# Altium footprint library HANDS-FREEE-PcbLib-V1.10.PcbLib: 197 footprints (part 12 of 13)
Each footprint in its own frame and in the unit in brackets; x right, y up, seen from the top. Pads: shape width x height; smd on the part's side, far side on the other; paste and mask are expansions set on the pad; w line width, h text height; cw(c..) or ccw(c..) is an arc to the next point about the centre after c.
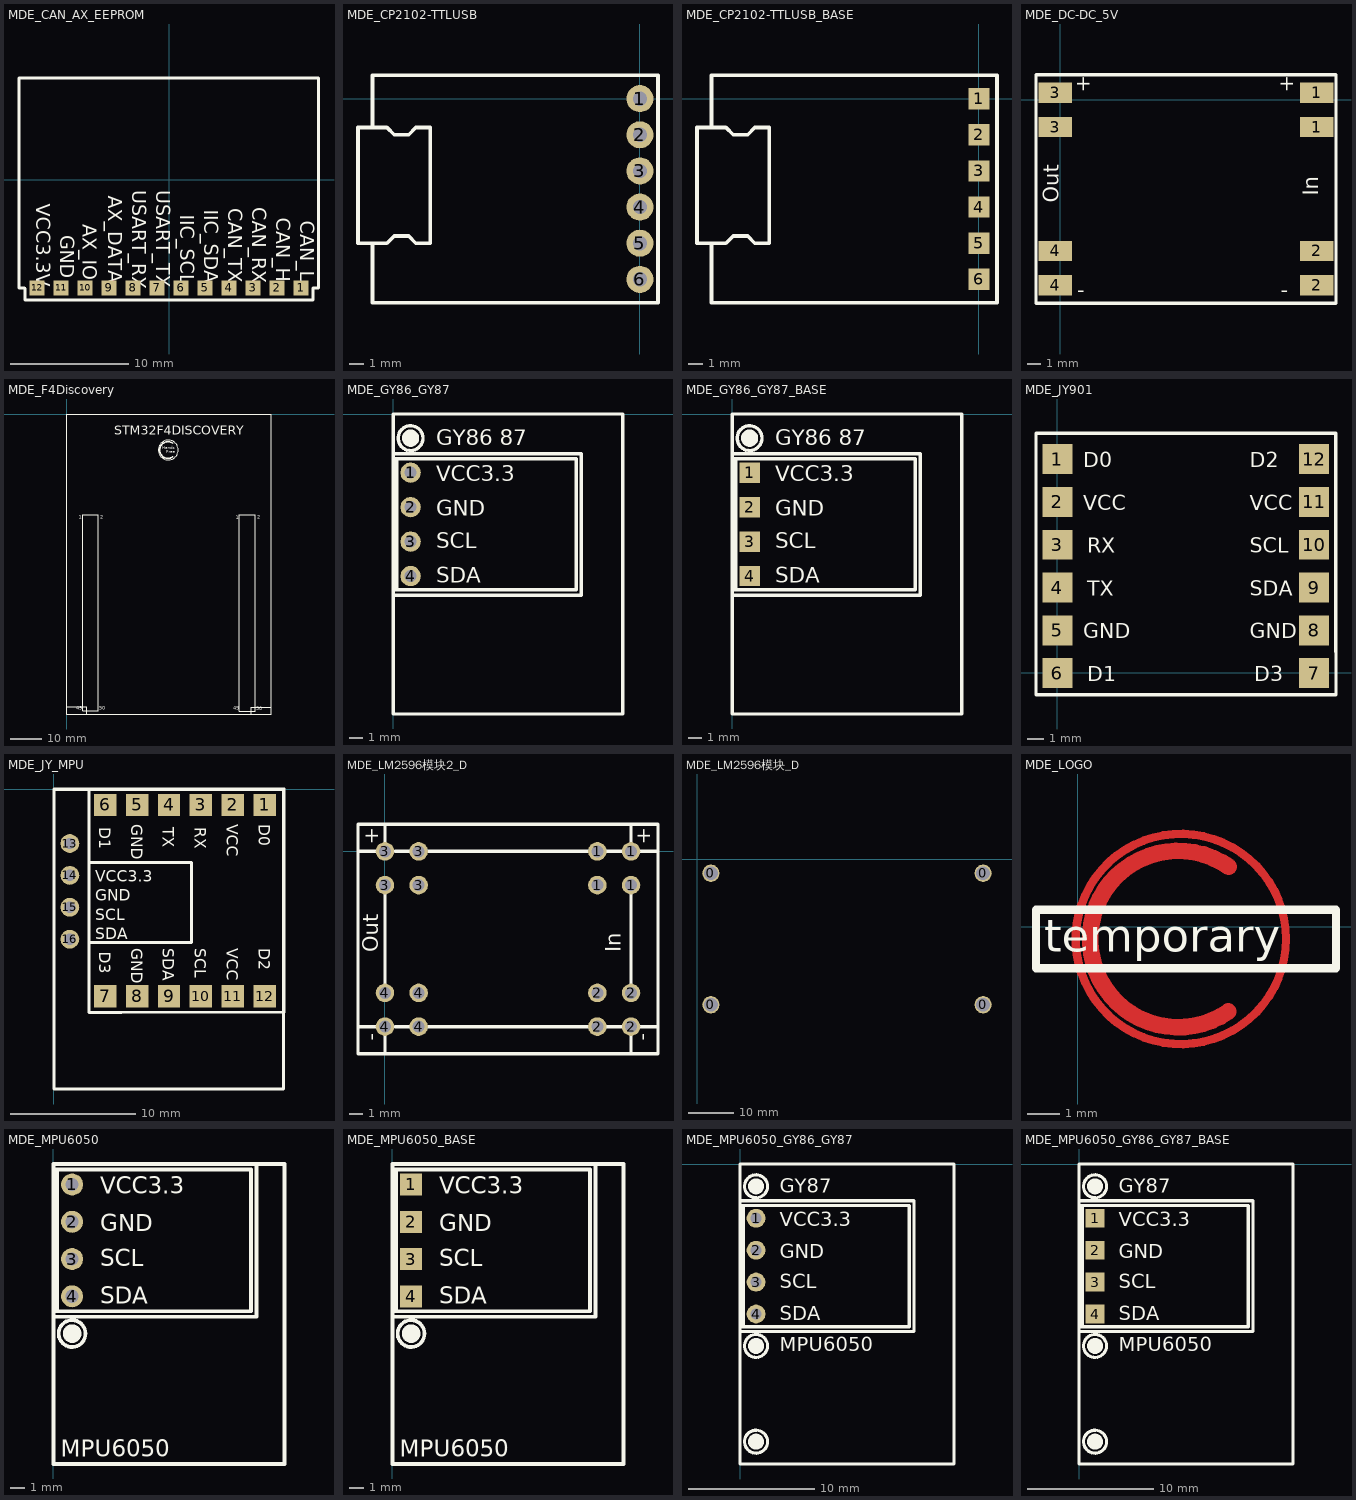
[diagram p11: the footprints below, top view; thin cyan lines are the x and y axes]

## MDE_CAN_AX_EEPROM [mil]
pads (12):
  rect 50x50 smd: 1(440,-360) 2(360,-360) 3(280,-360) 4(200,-360) 5(120,-360) 6(40,-360) 7(-40,-360) 8(-120,-360) 9(-200,-360) 10(-280,-360) 11(-360,-360) 12(-440,-360)
Top Overlay:
  lines w10: -500,-361 -500,339 498,339 498,-361 481,-361 480,-360 480,-400 0,-400 -480,-400 -480,-362 -481,-361 -500,-361
  text "VCC3.3V" at -460,-79.07 h80
  text "GND" at -380,-185 h80
  text "AX_IO" at -305,-148.81 h80
  text "AX_DATA" at -220,-52.75 h80
  text "USART_RX" at -140,-34.16 h80
  text "USART_TX" at -60,-35.18 h80
  text "IIC_SCL" at 20,-117.03 h80
  text "IIC_SDA" at 100,-100 h80
  text "CAN_TX" at 180,-95.08 h80
  text "CAN_RX" at 260,-90.86 h80
  text "CAN_H" at 340,-126.01 h80
  text "CAN_L" at 420,-136.47 h80

## MDE_CP2102-TTLUSB [mm]
pads (6):
  round 1.9 hole 1: 1(0,0) 2(0,-2.54) 3(0,-5.08) 4(0,-7.62) 5(0,-10.16) 6(0,-12.7)
Top Overlay:
  lines w0.254: -18.796,-10.16 -17.78,-10.16 -17.272,-9.652 -16.256,-9.652 -15.748,-10.16 -14.732,-10.16 -14.732,-6.096 -14.732,-2.032 -15.748,-2.032 -16.256,-2.54 -17.272,-2.54 -17.78,-2.032 -18.796,-2.032 ; -18.796,-10.16 -19.812,-10.16 -19.812,-2.032 -18.796,-2.032 ; -18.796,-10.16 -18.796,-14.351 1.27,-14.351 1.27,1.651 -18.796,1.651 -18.796,-2.032

## MDE_CP2102-TTLUSB_BASE [mil]
pads (6):
  rect 59x59 smd: 1(0,0) 2(0,-100) 3(0,-200) 4(0,-300) 5(0,-400) 6(0,-500)
Top Overlay:
  lines w10: -740,-400 -700,-400 -680,-380 -640,-380 -620,-400 -580,-400 -580,-240 -580,-80 -620,-80 -640,-100 -680,-100 -700,-80 -740,-80 ; -740,-400 -780,-400 -780,-80 -740,-80 ; -740,-400 -740,-565 50,-565 50,65 -740,65 -740,-80

## MDE_DC-DC_5V [mil]
pads (8):
  rect 98.43x59.06 smd: 1(745,-80) 1(745,20) 2(745,-540) 2(745,-440) 3(-15,-80) 3(-15,20) 4(-15,-540) 4(-15,-440)
Top Overlay:
  lines w10: -71,-592 801,-592 801,72 -71,72 -71,-592
  text "+" at 49,20 h45
  text "-" at 49,-575 h45
  text "-" at 640,-575 h45
  text "In" at 750,-280 h45
  text "Out" at -5,-300 h45
  text "+" at 640,20 h45

## MDE_F4Discovery [mil]
Top Overlay:
  circle w10: c1290.81,-459 r126.19
  lines w7.87: 200,-3780 400,-3780 400,-1355 400,-1280 200,-1280 200,-1355 200,-3780 ; 2197,-3783 2197,-1358 2197,-1283 2397,-1283 2397,-1358 2397,-3783 2197,-3783
  lines w10: 0,-3730 249.21,-3730 ; 250,-3817.4 250,-3730 ; 2348,-3819.4 2348,-3732 2597.21,-3732 ; 0,-3820 0,0 2600,0 2600,-3820 0,-3820
  lines w20: 1347.87,-546.09 cw(c1287.7,-459.05) 1348.29,-372.3
  text "Hands" at 1212,-449 h35
  text "Free" at 1262,-499 h35
  text "1" at 150,-1352 h78.74
  text "2" at 422,-1352 h78.74
  text "49" at 2117,-3786 h78.74
  text "49" at 117,-3785 h78.74
  text "50" at 410,-3783 h78.74
  text "2" at 2422,-1353 h78.74
  text "1" at 2148,-1359 h78.74
  text "50" at 2409,-3789 h78.74
  text "STM32F4DISCOVERY" at 605,-301 h196.85

## MDE_GY86_GY87 [mil]
pads (4):
  round 59 hole 35.43: 1(50,-170) 2(50,-270) 3(50,-370) 4(50,-470)
Top Overlay:
  circle w10: c50,-70 r36.06
  circle w30: c50,-70 r10
  lines w10: 0,-525 545,-525 545,-115 0,-115 ; 0,-510 530,-510 530,-130 0,-130 ; 10,-510 10,-130 15,-130 ; 0,-870 0,0 665,0 665,-870 0,-870
  text "GY86 87" at 125,-90 h45
  text "SCL" at 125,-390 h45
  text "GND" at 125,-295 h45
  text "VCC3.3" at 125,-195 h45
  text "SDA" at 125,-490 h45

## MDE_GY86_GY87_BASE [mil]
pads (4):
  rect 59x59 smd: 1(50,-170) 2(50,-270) 3(50,-370) 4(50,-470)
Top Overlay:
  circle w10: c50,-70 r36.06
  circle w30: c50,-70 r10
  lines w10: 0,-525 545,-525 545,-115 0,-115 ; 0,-510 530,-510 530,-130 0,-130 ; 10,-510 10,-130 15,-130 ; 0,-870 0,0 665,0 665,-870 0,-870
  text "GY86 87" at 125,-90 h45
  text "SCL" at 125,-390 h45
  text "GND" at 125,-295 h45
  text "VCC3.3" at 125,-195 h45
  text "SDA" at 125,-490 h45

## MDE_JY901 [mil]
pads (12):
  rect 70x70 smd: 1(0.63,499.63) 2(0.63,399.63) 3(0.63,299.63) 4(0.63,199.63) 5(0.63,99.63) 6(0.63,-0.37) 7(600.63,-0.37) 8(600.63,99.63) 9(600.63,199.63) 10(600.63,299.63) 11(600.63,399.63) 12(600.63,499.63)
Top Overlay:
  lines w7.87: -49.37,49.63 -49.37,449.63 ; 650.63,449.63 650.63,49.63 651.63,49.63
  lines w8: -49.37,49.63 -49.37,-51.37 651.63,-51.37 651.63,49.63 ; -49.37,449.63 -49.37,560.63 650.63,560.63 650.63,449.63
  text "VCC" at 60.63,380.63 h35
  text "VCC" at 450.63,380.63 h35
  text "GND" at 60.63,80.63 h35
  text "GND" at 450.63,80.63 h35
  text "RX" at 70.63,280.63 h35
  text "TX" at 70.63,180.63 h35
  text "SDA" at 450.63,180.63 h35
  text "SCL" at 450.63,280.63 h35
  text "D0" at 60.63,480.63 h35
  text "D1" at 70.63,-19.37 h35
  text "D2" at 450.63,480.63 h35
  text "D3" at 460.63,-19.37 h35

## MDE_JY_MPU [mil]
pads (16):
  rect 70x70 smd: 1(661,-49) 2(561,-49) 3(461,-49) 4(361,-49) 5(261,-49) 6(161,-49) 7(161,-649) 8(261,-649) 9(361,-649) 10(461,-649) 11(561,-649) 12(661,-649)
  round 59 hole 35.43: 13(50,-170) 14(50,-270) 15(50,-370) 16(50,-470)
Top Overlay:
  lines w7.87: 211,-700 211,-699 611,-699 ; 211,1 611,1
  lines w8: 211,-700 110,-700 110,1 211,1 ; 611,-699 722,-699 722,1 611,1
  lines w10: 70,-940 0,-940 ; 110,-480 432,-480 432,-230 110,-230 ; 0,-940 720,-940 720,0 0,0 0,-940
  text "SDA" at 130,-470 h35
  text "VCC3.3" at 130,-290 h35
  text "GND" at 130,-350 h35
  text "SCL" at 130,-410 h35
  text "D3" at 142,-509 h35
  text "D2" at 642,-499 h35
  text "D1" at 142,-119 h35
  text "D0" at 642,-109 h35
  text "SCL" at 442,-499 h35
  text "SDA" at 342,-499 h35
  text "TX" at 342,-119 h35
  text "RX" at 442,-119 h35
  text "GND" at 242,-499 h35
  text "GND" at 242,-109 h35
  text "VCC" at 542,-499 h35
  text "VCC" at 542,-109 h35

## MDE_LM2596模块2_D [mil]
pads (16):
  round 55 hole 35.6: 1(630,-100) 1(630,0) 1(730,-100) 1(730,0) 2(630,-520) 2(630,-420) 2(730,-520) 2(730,-420) 3(0,-100) 3(0,0) 3(100,-100) 3(100,0) 4(0,-520) 4(0,-420) 4(100,-520) 4(100,-420)
Top Overlay:
  lines w10: -80,-520 0,-520 0,-600 ; -80,0 0,0 0,80 ; 0,-420 0,-100 ; 30,-520 730,-520 ; 30,0 730,0 ; 730,-600 730,-520 ; 730,-420 730,-100 ; 730,80 730,0 ; 810,-520 730,-520 ; 730,0 810,0 ; 810,0 810,-600 -80,-600 -80,80 810,80 810,0
  text "-" at 750,-540 h45
  text "-" at -20,-540 h45
  text "In" at 700,-300 h45
  text "Out" at -20,-300 h45
  text "+" at -20,20 h45
  text "+" at 750,20 h45

## MDE_LM2596模块_D [mil]
pads (4):
  round 150 hole 120: 0(120,-1260) 0(120,-120) 0(2480,-1260) 0(2480,-120)
Bottom Overlay:
  lines w10: 0,-1380 0,0 2600,0 2600,-1380 0,-1380

## MDE_LOGO [mil]
Top Layer:
  circle w10: c123.81,-15 r126.19
  lines w20: 180.87,-102.09 cw(c120.7,-15.05) 181.29,71.7
  text "Free" at 95,-55 h35
  text "Hands" at 45,-5 h35
Top Overlay:
  lines w10: -50,-50 310,-50 310,20 -50,20 -50,-50
  text "temporary" at -40,-30 h39.37
Top Solder:
  circle w10: c123.81,-15 r126.19
  lines w20: 180.87,-102.09 cw(c120.7,-15.05) 181.29,71.7
  text "Free" at 95,-55 h35
  text "Hands" at 45,-5 h35

## MDE_MPU6050 [mil]
pads (4):
  round 59 hole 35.43: 1(50,-170) 2(50,-270) 3(50,-370) 4(50,-470)
Top Overlay:
  circle w10: c50,-570 r36.06
  circle w30: c50,-570 r10
  lines w10: 0,-525 545,-525 545,-115 0,-115 ; 0,-510 530,-510 530,-130 0,-130 ; 10,-510 10,-130 15,-130 ; 0,-115 0,-920 620,-920 620,-115 0,-115
  text "MPU6050" at 20,-900 h45
  text "SCL" at 125,-390 h45
  text "GND" at 125,-295 h45
  text "VCC3.3" at 125,-195 h45
  text "SDA" at 125,-490 h45

## MDE_MPU6050_BASE [mil]
pads (4):
  rect 59x59 smd: 1(50,-170) 2(50,-270) 3(50,-370) 4(50,-470)
Top Overlay:
  circle w30: c50,-570 r10
  circle w10: c50,-570 r36.06
  lines w10: 0,-525 545,-525 545,-115 0,-115 ; 0,-510 530,-510 530,-130 0,-130 ; 10,-510 10,-130 15,-130 ; 0,-115 620,-115 620,-920 0,-920 0,-115
  text "SDA" at 125,-490 h45
  text "VCC3.3" at 125,-195 h45
  text "GND" at 125,-295 h45
  text "SCL" at 125,-390 h45
  text "MPU6050" at 20,-900 h45

## MDE_MPU6050_GY86_GY87 [mil]
pads (4):
  round 59 hole 35.43: 1(50,-170) 2(50,-270) 3(50,-370) 4(50,-470)
Top Overlay:
  circle w10: c50,-570 r36.06
  circle w10: c50,-70 r36.06
  circle w30: c50,-70 r10
  circle w30: c50,-570 r10
  circle w10: c50,-870 r36.06
  circle w30: c50,-870 r10
  lines w10: 0,-525 545,-525 545,-115 0,-115 ; 0,-510 530,-510 530,-130 0,-130 ; 10,-510 10,-130 15,-130 ; 70,-940 0,-940 ; 0,-940 0,0 670,0 670,-940 0,-940
  text "MPU6050" at 123.94,-587.5 h45
  text "GY87" at 125,-90 h45
  text "SCL" at 125,-390 h45
  text "GND" at 125,-295 h45
  text "VCC3.3" at 125,-195 h45
  text "SDA" at 125,-490 h45

## MDE_MPU6050_GY86_GY87_BASE [mil]
pads (4):
  rect 59x59 smd: 1(50,-170) 2(50,-270) 3(50,-370) 4(50,-470)
Top Overlay:
  circle w10: c50,-570 r36.06
  circle w10: c50,-70 r36.06
  circle w30: c50,-70 r10
  circle w30: c50,-570 r10
  circle w10: c50,-870 r36.06
  circle w30: c50,-870 r10
  lines w10: 0,-525 545,-525 545,-115 0,-115 ; 0,-510 530,-510 530,-130 0,-130 ; 10,-510 10,-130 15,-130 ; 70,-940 0,-940 ; 0,-940 0,0 670,0 670,-940 0,-940
  text "MPU6050" at 123.94,-587.5 h45
  text "GY87" at 125,-90 h45
  text "SCL" at 125,-390 h45
  text "GND" at 125,-295 h45
  text "VCC3.3" at 125,-195 h45
  text "SDA" at 125,-490 h45